# Altium schematic symbol library Meshtastic.SchLib: 4 symbols
Pins are listed as number, name and electrical type; pins without a type are passive.

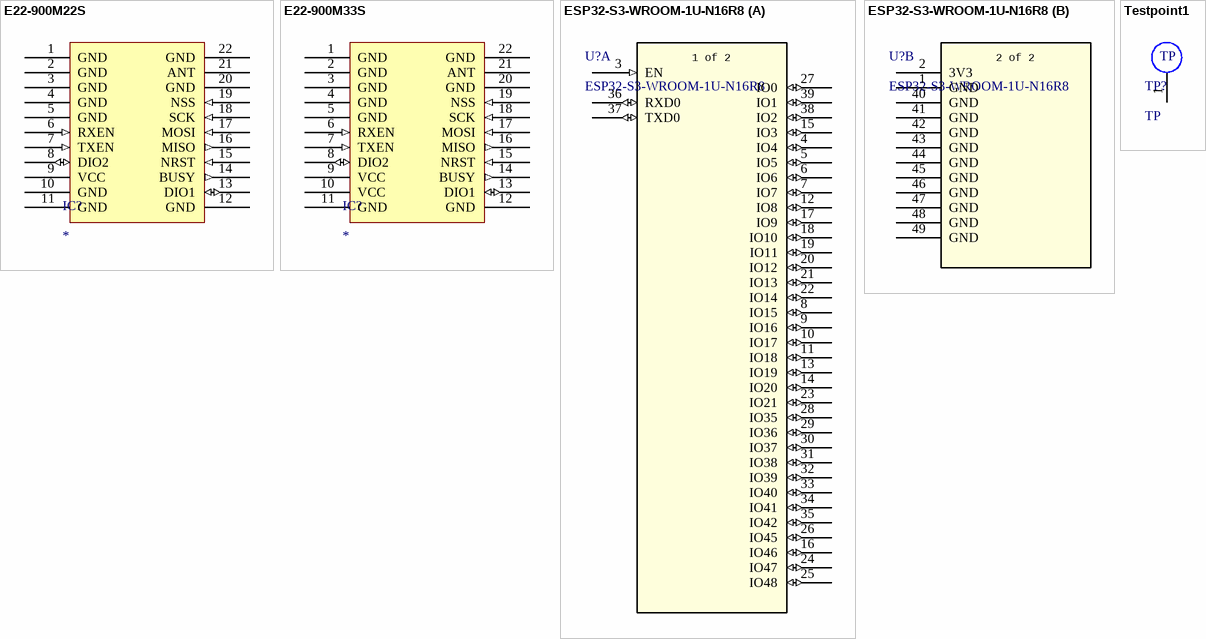
[diagram p0: symbols E22-900M22S to Testpoint1]

## E22-900M22S
designator IC?
footprint PE22(900M22S) (20mm*14mm*2.8mm-S)
pins: 1 GND, 2 GND, 3 GND, 4 GND, 5 GND, 6 RXEN (in), 7 TXEN (in), 8 DIO2 (io), 9 VCC, 10 GND, 11 GND, 12 GND, 13 DIO1 (io), 14 BUSY (out), 15 NRST (in), 16 MISO (out), 17 MOSI (in), 18 SCK (in), 19 NSS (in), 20 GND, 21 ANT, 22 GND

## E22-900M33S
designator IC?
footprint E22-XXXM33S
pins: 1 GND, 2 GND, 3 GND, 4 GND, 5 GND, 6 RXEN (in), 7 TXEN (in), 8 DIO2 (io), 9 VCC, 10 VCC, 11 GND, 12 GND, 13 DIO1 (io), 14 BUSY (out), 15 NRST (in), 16 MISO (out), 17 MOSI (in), 18 SCK (in), 19 NSS (in), 20 GND, 21 ANT, 22 GND

## ESP32-S3-WROOM-1U-N16R8
designator U?
Description; Manufacturer_Name: Espressif Systems; Copyright: Copyright (C) 2026 Ultra Librarian. All rights reserved.; Manufacturer_Part_Number: ESP32-S3-WROOM-1U-N16R8; RefDes: RefDes; Type: Type
footprint ESP32-S3-WROOM-1U_EXP
part A pins: 3 EN (in), 4 IO4 (io), 5 IO5 (io), 6 IO6 (io), 7 IO7 (io), 8 IO15 (io), 9 IO16 (io), 10 IO17 (io), 11 IO18 (io), 12 IO8 (io), 13 IO19 (io), 14 IO20 (io), 15 IO3 (io), 16 IO46 (io), 17 IO9 (io), 18 IO10 (io), 19 IO11 (io), 20 IO12 (io), 21 IO13 (io), 22 IO14 (io), 23 IO21 (io), 24 IO47 (io), 25 IO48 (io), 26 IO45 (io), 27 IO0 (io), 28 IO35 (io), 29 IO36 (io), 30 IO37 (io), 31 IO38 (io), 32 IO39 (io), 33 IO40 (io), 34 IO41 (io), 35 IO42 (io), 36 RXD0 (io), 37 TXD0 (io), 38 IO2 (io), 39 IO1 (io)
part B pins: 1 GND (power), 2 3V3 (power), 40 GND (power), 41 GND (power), 42 GND (power), 43 GND (power), 44 GND (power), 45 GND (power), 46 GND (power), 47 GND (power), 48 GND (power), 49 GND (power)
part A text: 1 of 2
part B text: 2 of 2

## Testpoint1
designator TP?, comment TP  (no BOM)
pins: 1 TP1